# EAGLE library part ATTINY85 (library lib)
ATTiny 85 8-bit Microcontrollers - MCU 8K FLSH 512B EE SRAM ADC 8PINS-10MHz 1.8V
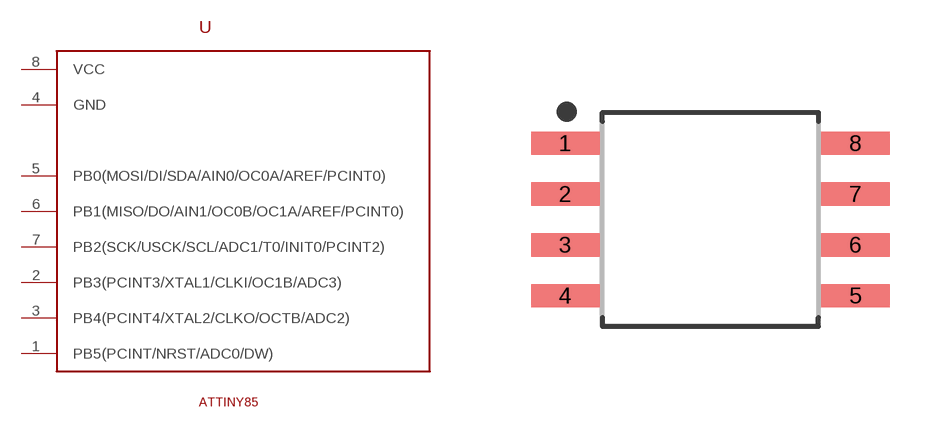
[diagram p1: symbol with the pads of SOIC127P798X216-8N; footprint SOIC127P798X216-8N]

Designator prefix U

## ATTINY85SOIC-8 (LINK: https://www.mouser.se/ProductDetail/Microchip-Technology-Atmel/ATTINY85V-10SUR?qs=6Dg1WZIWLC7RsRgydzBFFw%3D%3D; MPN: ATTINY85V-10SUR; SUPPLIER: Mouser)  [SOIC127P798X216-8N]
1  PB5(PCINT/NRST/ADC0/DW)
2  PB3(PCINT3/XTAL1/CLKI/OC1B/ADC3)
3  PB4(PCINT4/XTAL2/CLKO/OCTB/ADC2)
4  GND  pwr
5  PB0(MOSI/DI/SDA/AIN0/OC0A/AREF/PCINT0)
6  PB1(MISO/DO/AIN1/OC0B/OC1A/AREF/PCINT0)
7  PB2(SCK/USCK/SCL/ADC1/T0/INIT0/PCINT2)
8  VCC  pwr

## Footprint SOIC127P798X216-8N (pad centres in mm)
8-SOIC, 1.27 mm pitch, 7.98 mm span, 5.24 X 5.29 X 2.16 mm body 8-pin SOIC package with 1.27 mm pitch, 7.98 mm span with body size 5.24 X 5.29 X 2.16 mm
smd 1.714 x 0.582: 1 -3.628,1.905; 2 -3.628,0.635; 3 -3.628,-0.635; 4 -3.628,-1.905; 5 3.628,-1.905; 6 3.628,-0.635; 7 3.628,0.635; 8 3.628,1.905